# EAGLE library part TDA8560Q (library Audio-Power-amlifier)
2x40W Stereo BTL Amplifier
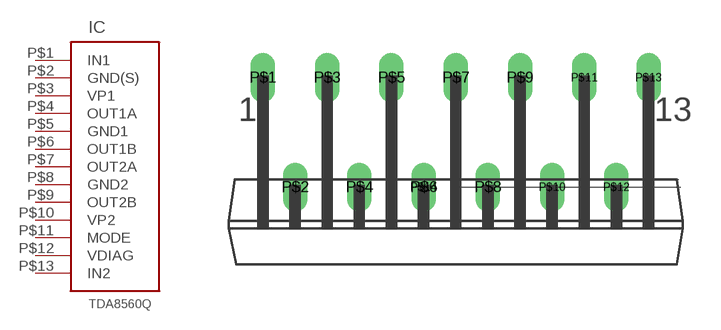
[diagram p3: symbol with the pads of SOT141-6; footprint SOT141-6]

Designator prefix IC

## TDA8560Q  [SOT141-6]
P$1  IN1
P$2  GND(S)
P$3  VP1
P$4  OUT1A
P$5  GND1
P$6  OUT1B
P$7  OUT2A
P$8  GND2
P$9  OUT2B
P$10  VP2
P$11  MODE
P$12  VDIAG
P$13  IN2

## Footprint SOT141-6 (pad centres in mm)
drill 0.8 long: P$1 -10.2,5.8; P$2 -8.5,0; P$3 -6.8,5.8; P$4 -5.1,0; P$5 -3.4,5.8; P$6 -1.7,0; P$7 0,5.8; P$8 1.7,0; P$9 3.4,5.8; P$10 5.1,0; P$11 6.8,5.8; P$12 8.5,0; P$13 10.2,5.8; P$14 -1.7,0